# EAGLE library part WM-N-BM-30 (library MyLibrary)
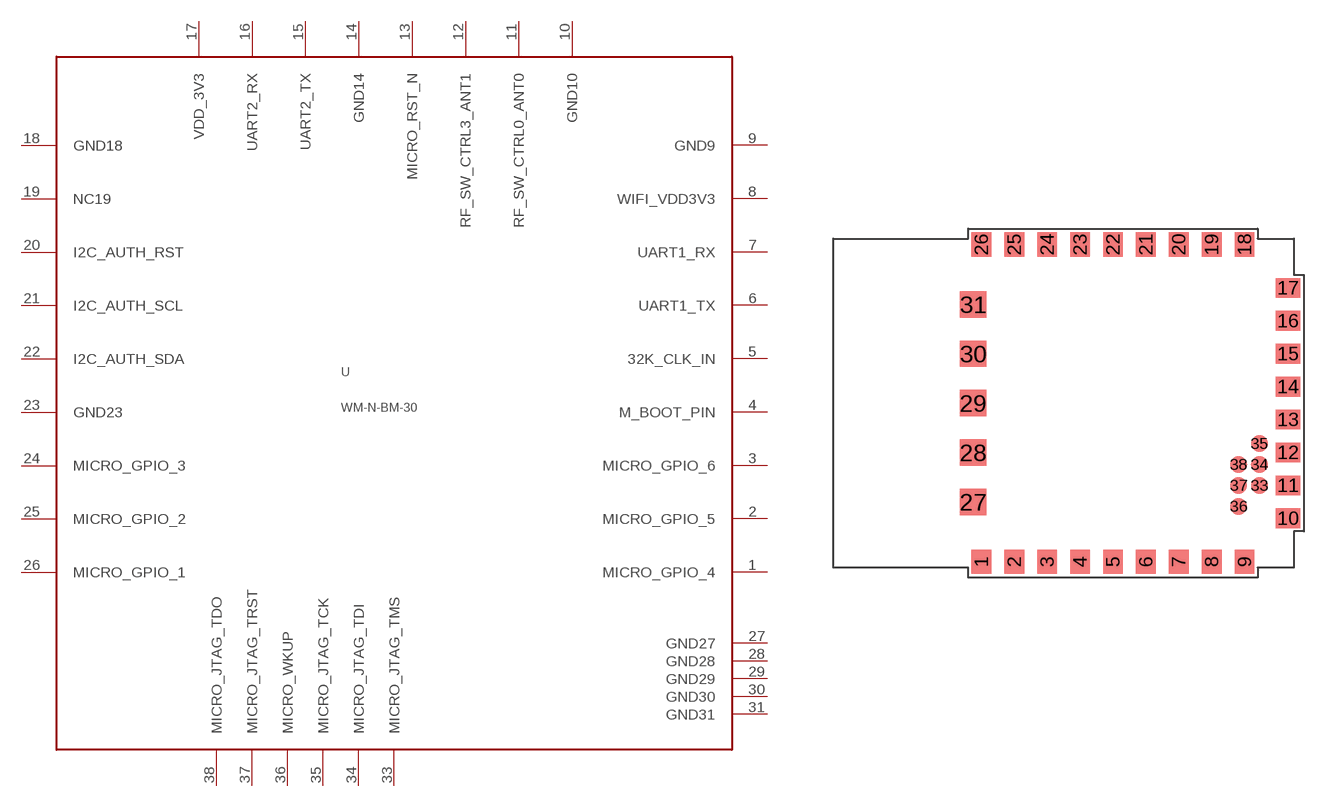
[diagram p14: symbol with the pads of WM-N-BM-30; footprint WM-N-BM-30]

Designator prefix -

## WM-N-BM-30  [WM-N-BM-30]
1  MICRO_GPIO_4
2  MICRO_GPIO_5
3  MICRO_GPIO_6
4  M_BOOT_PIN
5  32K_CLK_IN
6  UART1_TX
7  UART1_RX
8  WIFI_VDD3V3
9  GND9
10  GND10
11  RF_SW_CTRL0_ANT0
12  RF_SW_CTRL3_ANT1
13  MICRO_RST_N
14  GND14
15  UART2_TX
16  UART2_RX
17  VDD_3V3
18  GND18
19  NC19
20  I2C_AUTH_RST
21  I2C_AUTH_SCL
22  I2C_AUTH_SDA
23  GND23
24  MICRO_GPIO_3
25  MICRO_GPIO_2
26  MICRO_GPIO_1
27  GND27
28  GND28
29  GND29
30  GND30
31  GND31
33  MICRO_JTAG_TMS
34  MICRO_JTAG_TDI
35  MICRO_JTAG_TCK
36  MICRO_WKUP
37  MICRO_JTAG_TRST
38  MICRO_JTAG_TDO

## Footprint WM-N-BM-30 (pad centres in mm)
smd 1.2 x 1.48: 1 -8,-9.64; 2 -6,-9.64; 3 -4,-9.64; 4 -2,-9.64; 5 0,-9.64; 6 2,-9.64; 7 4,-9.64; 8 6,-9.64; 9 8,-9.64; 18 8,9.64; 19 6,9.64; 20 4,9.64; 21 2,9.64; 22 0,9.64; 23 -2,9.64; 24 -4,9.64; 25 -6,9.64; 26 -8,9.64
smd 1.48 x 1.2: 10 10.64,-7; 11 10.64,-5; 12 10.64,-3; 13 10.64,-1; 14 10.64,1; 15 10.64,3; 16 10.64,5; 17 10.64,7
smd 1.6 x 1.6: 27 -8.5,-6; 28 -8.5,-3; 29 -8.5,0; 30 -8.5,3; 31 -8.5,6
smd 1.02 x 1.02: 33 8.9,-5; 34 8.9,-3.73; 35 8.9,-2.46; 36 7.64,-6.27; 37 7.64,-5; 38 7.64,-3.73